# Altium schematic symbol library Bluepill.SchLib: 2 symbols
Pins are listed as number, name and electrical type; pins without a type are passive.

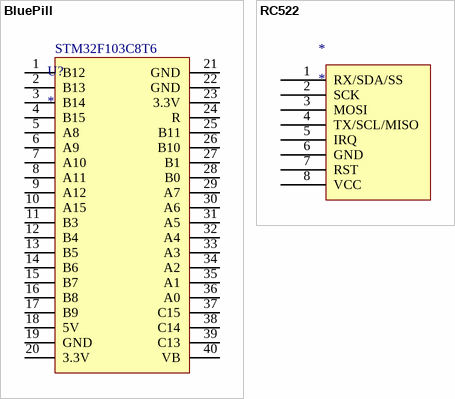
[diagram p0: symbols BluePill to RC522]

## BluePill
designator U?
footprint DIP40 - duplicate
pins: 1 B12, 2 B13, 3 B14, 4 B15, 5 A8, 6 A9, 7 A10, 8 A11, 9 A12, 10 A15, 11 B3, 12 B4, 13 B5, 14 B6, 15 B7, 16 B8, 17 B9, 18 5V, 19 GND, 20 3.3V, 21 GND, 22 GND, 23 3.3V, 24 R, 25 B11, 26 B10, 27 B1, 28 B0, 29 A7, 30 A6, 31 A5, 32 A4, 33 A3, 34 A2, 35 A1, 36 A0, 37 C15, 38 C14, 39 C13, 40 VB
text: STM32F103C8T6

## RC522
designator *
footprint PCBComponent_1 - duplicate
pins: 1 RX/SDA/SS, 2 SCK, 3 MOSI, 4 TX/SCL/MISO, 5 IRQ, 6 GND, 7 RST, 8 VCC